# Altium integrated library LQW15AN24NG8ZD.IntLib: 1 symbol
Pins are listed as number, name and electrical type; pins without a type are passive.

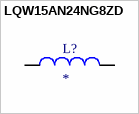
[diagram p0: symbol LQW15AN24NG8ZD]

## LQW15AN24NG8ZD
designator L?
FIXED IND 24NH 770MA 212 MOHM; MP: LQW15AN24NG8ZD; Package: None; Price: None; Value: *; Availability: Unavailable
footprint INDC1006X60N
pins: 1, 2